# EAGLE library part POWER (library TuesdayR3)
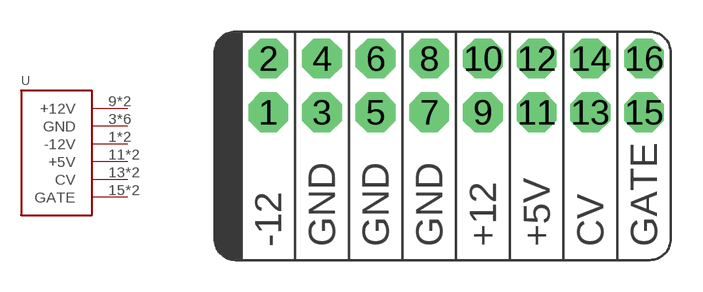
[diagram p6: symbol with the pads of POWER_16; footprint POWER_16]

Designator prefix -

## POWER  [POWER_16]
1  -12V
2  -12V
3  GND
4  GND
5  GND
6  GND
7  GND
8  GND
9  +12V
10  +12V
11  +5V
12  +5V
13  CV
14  CV
15  GATE
16  GATE

## Footprint POWER_16 (pad centres in mm)
drill 1.016 pad 1.88 octagon: 1 -6.35,-1.27; 2 -6.35,1.27; 3 -3.81,-1.27; 4 -3.81,1.27; 5 -1.27,-1.27; 6 -1.27,1.27; 7 1.27,-1.27; 8 1.27,1.27; 9 3.81,-1.27; 10 3.81,1.27; 11 6.35,-1.27; 12 6.35,1.27; 13 8.89,-1.27; 14 8.89,1.27; 15 11.43,-1.27; 16 11.43,1.27